# EAGLE library part DRV134 (library BurrBrownAudioParts)
Audio Balanced Line Drivers
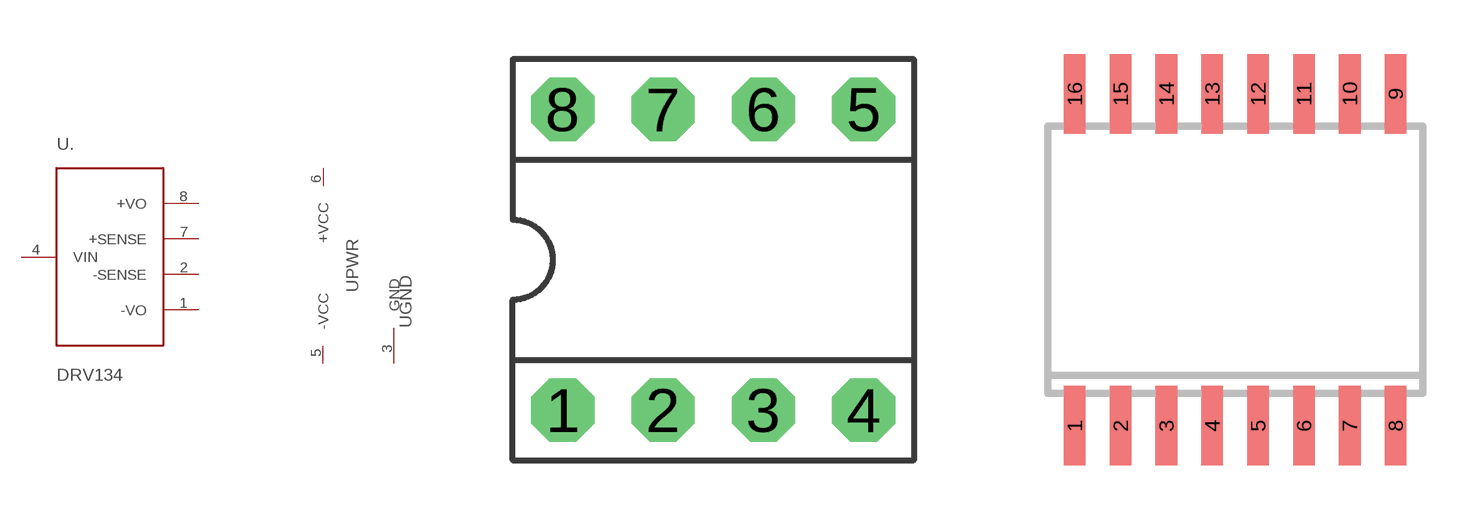
[diagram p4: symbol with the pads of DIL08; footprints DIL08, SO16W]

Designator prefix -; gates .=DRV134-1 PWR=+-V GND=GROUND

## DRV134PA  [DIL08]
1  .:-VO
2  .:-SENSE
3  GND:GND  pwr
4  .:VIN
5  PWR:-VCC  pwr
6  PWR:+VCC  pwr
7  .:+SENSE
8  .:+VO

## DRV134UA  [SO16W]
3  .:-VO
4  .:-SENSE
5  GND:GND  pwr
6  .:VIN
11  PWR:-VCC  pwr
12  PWR:+VCC  pwr
13  .:+SENSE
14  .:+VO

## Footprint DIL08 (pad centres in mm)
Dual In Line
drill 0.813 pad 1.6 octagon: 1 -3.81,-3.81; 2 -1.27,-3.81; 3 1.27,-3.81; 4 3.81,-3.81; 5 3.81,3.81; 6 1.27,3.81; 7 -1.27,3.81; 8 -3.81,3.81

## Footprint SO16W (pad centres in mm)
SMALL OUTLINE INTEGRATED CIRCUIT wide body 7.5 mm/JEDEC MS-013AA
smd 0.6 x 2.2: 1 -4.445,-4.6; 2 -3.175,-4.6; 3 -1.905,-4.6; 4 -0.635,-4.6; 5 0.635,-4.6; 6 1.905,-4.6; 7 3.175,-4.6; 8 4.445,-4.6; 9 4.445,4.6; 10 3.175,4.6; 11 1.905,4.6; 12 0.635,4.6; 13 -0.635,4.6; 14 -1.905,4.6; 15 -3.175,4.6; 16 -4.445,4.6